# Altium schematic symbol library indication.SchLib: 5 symbols
Pins are listed as number, name and electrical type; pins without a type are passive.

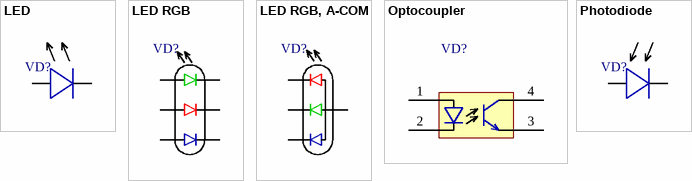
[diagram p0: symbols LED to Photodiode]

## LED
designator VD?
LED
footprint LED_0603/1608 (LED, SMD, 0603 (1608 metric))
footprint LED_0805/2012 (LED, SMD, 0805 (2012 metric))
footprint LED_1206/3216 (LED, SMD, 1206 (3216 metric))
footprint PLS-2 2.54 (Pitch 2.54); pin to pad A>1 C>2
footprint HDR_SMD_1X2_1.50 (Pitch 1.50); pin to pad A>1 C>2
pins: A, C

## LED RGB
designator VD?
RGB LED
pins: AB Anode, AG Anode, AR Anode, CB Cathode, CG Cathode, CR Cathode

## LED RGB, A-COM
designator VD?
RGB LED, common anode
pins: A Anode, CB Cathode, CG Cathode, CR Cathode

## Optocoupler
designator VD?
Optocoupler
pins: 1 A, 2 C, 3 E, 4 C

## Photodiode
designator VD?
Photodiode
pins: A Anode, C Cathode